# EAGLE library part WE-LAN-24PIN-2 (library Wuerth_Elektronik_eiSos_ v6.0)
LAN-Transformer WE-LAN 16Pin - Compliant with IEEE 802.3 standards - SMD -- Ethernet -- Power over Ethernet -- 1 Gigabit Ethernet -- Compliant with most IC's for ethernet applications like Intel, AMD, Globespan and Realtek
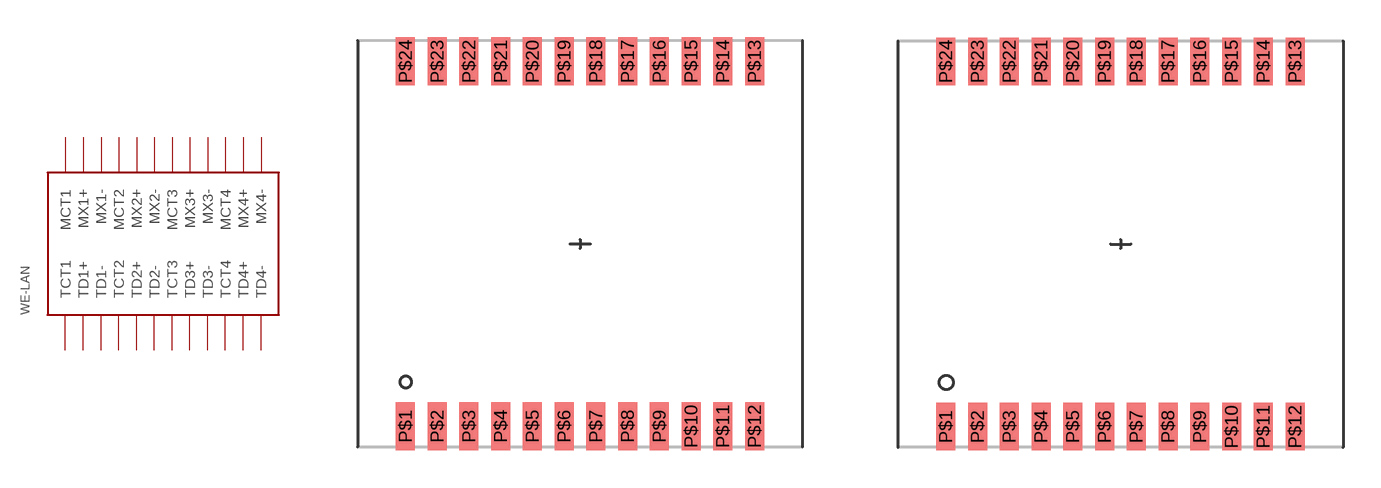
[diagram p6: symbol with the pads of WE-LAN_749020010; footprints WE-LAN_749020010, WE-LAN_749020011]

Designator prefix WE-LAN

## WE-LAN-24PIN-2_749020010  [WE-LAN_749020010]
P$1  TCT1  pas
P$2  TD1+  pas
P$3  TD1-  pas
P$4  TCT2  pas
P$5  TD2+  pas
P$6  TD2-  pas
P$7  TCT3  pas
P$8  TD3+  pas
P$9  TD3-  pas
P$10  TCT4  pas
P$11  TD4+  pas
P$12  TD4-  pas
P$13  MX4-  pas
P$14  MX4+  pas
P$15  MCT4  pas
P$16  MX3-  pas
P$17  MX3+  pas
P$18  MCT3  pas
P$19  MX2-  pas
P$20  MX2+  pas
P$21  MCT2  pas
P$22  MX1-  pas
P$23  MX1+  pas
P$24  MCT1  pas

## WE-LAN-24PIN-2_749020011  [WE-LAN_749020011]
Pads as for WE-LAN_749020010

## Footprint WE-LAN_749020010 (pad centres in mm)
LAN- Transformer
smd 0.76 x 1.91: P$1 -6.99,-7.3; P$2 -5.72,-7.3; P$3 -4.45,-7.3; P$4 -3.18,-7.3; P$5 -1.91,-7.3; P$6 -0.64,-7.3; P$7 0.63,-7.3; P$8 1.9,-7.3; P$9 3.17,-7.3; P$10 4.44,-7.3; P$11 5.71,-7.3; P$12 6.98,-7.3; P$13 6.98,7.3; P$14 5.71,7.3; P$15 4.44,7.3; P$16 3.17,7.3; P$17 1.9,7.3; P$18 0.63,7.3; P$19 -0.64,7.3; P$20 -1.91,7.3; P$21 -3.18,7.3; P$22 -4.45,7.3; P$23 -5.72,7.3; P$24 -6.99,7.3

## Footprint WE-LAN_749020011 (pad centres in mm)
LAN- Transformer
smd 0.76 x 1.91: P$1 -6.99,-7.3; P$2 -5.72,-7.3; P$3 -4.45,-7.3; P$4 -3.18,-7.3; P$5 -1.91,-7.3; P$6 -0.64,-7.3; P$7 0.63,-7.3; P$8 1.9,-7.3; P$9 3.17,-7.3; P$10 4.44,-7.3; P$11 5.71,-7.3; P$12 6.98,-7.3; P$13 6.98,7.31; P$14 5.71,7.31; P$15 4.44,7.31; P$16 3.17,7.31; P$17 1.9,7.31; P$18 0.63,7.31; P$19 -0.64,7.31; P$20 -1.91,7.31; P$21 -3.18,7.31; P$22 -4.45,7.31; P$23 -5.72,7.31; P$24 -6.99,7.31